# EAGLE library part TPSM84209RKHT (library TPSM84209RKHT)
4.5-V to 28-V input, 1.2-V to 6-V output, 2.5-A power module Source: Datasheet <http://www.ti.com/lit/gpn/tpsm84209>
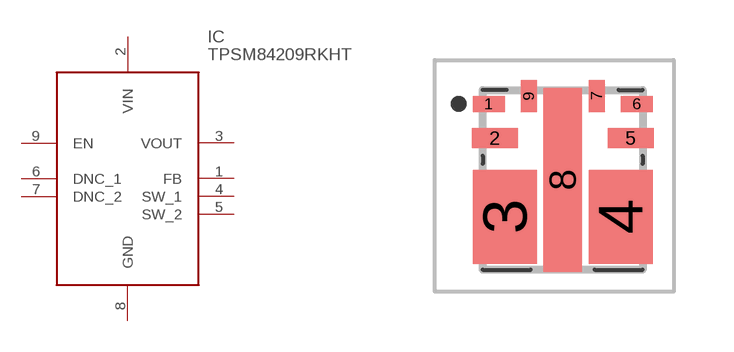
[diagram p0: symbol with the pads of TPSM84209RKHT; footprint TPSM84209RKHT]

Designator prefix IC

## TPSM84209RKHT (Arrow_Part_Number: TPSM84209RKHT; Arrow_Price-Stock: https://www.arrow.com/en/products/tpsm84209rkht/texas-instruments; Description: 4.5-V to 28-V input, 1.2-V to 6-V output, 2.5-A power module; Height: 2.1mm; Manufacturer_Name: Texas Instruments; Manufacturer_Part_Number: TPSM84209RKHT; Mouser_Part_Number: 595-TPSM84209RKHT; Mouser_Price-Stock: https://www.mouser.co.uk/ProductDetail/Texas-Instruments/TPSM84209RKHT?qs=rrS6PyfT74fnmFkKpetMQQ%3D%3D)  [TPSM84209RKHT]
1  FB
2  VIN
3  VOUT
4  SW_1
5  SW_2
6  DNC_1
7  DNC_2
8  GND
9  EN

## Footprint TPSM84209RKHT (pad centres in mm)
RKH0009A
smd 0.8 x 0.4: 1 -1.85,1.9; 6 1.85,1.9
smd 1.15 x 0.5: 2 -1.7,1.05; 5 1.7,1.05
smd 1.6 x 2.35: 3 -1.45,-0.925; 4 1.45,-0.925
smd 0.4 x 0.8: 7 0.85,2.1; 9 -0.85,2.1
smd 0.96 x 4.6: 8 0,0